# Altium integrated library Without Case Components.IntLib: 21 symbols
Pins are listed as number, name and electrical type; pins without a type are passive.

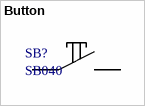
[diagram p0: symbol Button]

## Button
designator SB?, comment SB040
SB040 RED IP65 on-off ф20.2mm; Name: Включатель; Case: *; HelpURL: https://www.chipdip.ru/product0/8007160447; Model: SB040 RED; Value: SB040
pins: 1, 2


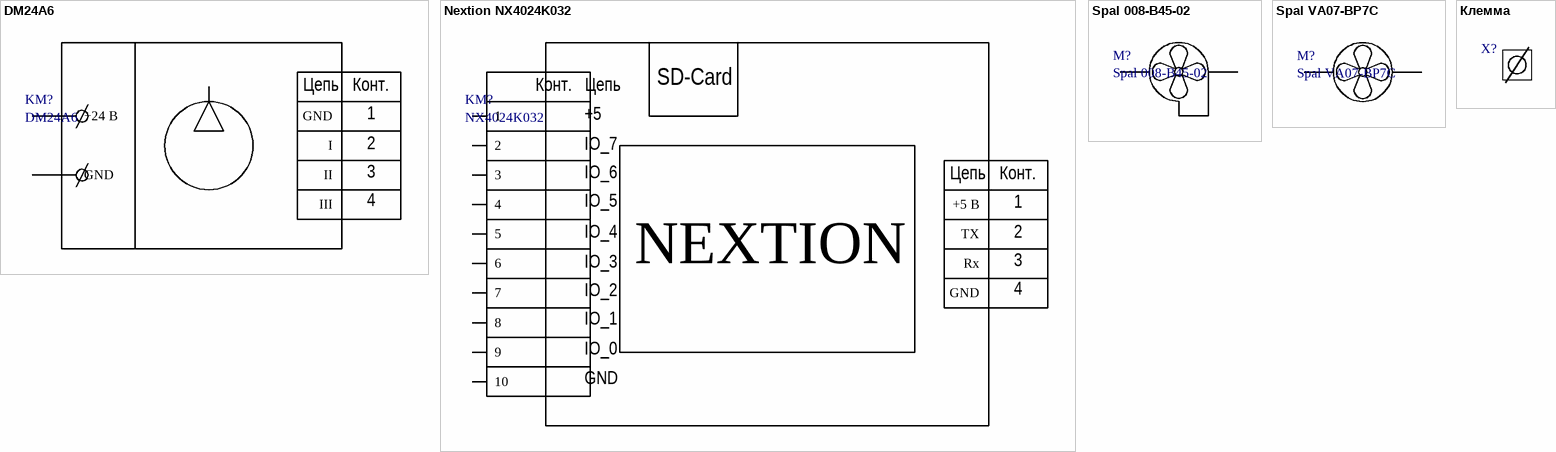
[diagram p1: symbols DM24A6 to Клемма]

## DM24A6
designator KM?
DM24A6 dc 24v air compressor, speed 1800-6000; Name: Спиральный компрессор; HelpURL: https://www.ecvv.com/product/4596610.html; Model: DM24A6; Value: DM24A6
pins: 1 +24 B, 2 GND, 3 GND, 4 I, 5 II, 6 III
text: Цепь; Конт.

## Nextion NX4024K032
designator KM?, comment NX4024K032
Nextion NX4024K032; Name: Сенсорный экран; HelpURL: https://nextion.tech/datasheets/nx4024k032/; Model: NX4024K032; Value: NX4024K032
pins: 1 +5 В, 1, 2 TX, 2, 3 Rx, 3, 4 GND, 4, 5, 6, 7, 8, 9, 10
text: Конт.; Цепь; SD-Card; +5; IO_7; IO_6; IO_5; IO_4; IO_3; NEXTION; IO_2; IO_1; IO_0

## Spal 008-B45-02
designator M?
Name: Вентилятор приточный; HelpURL: https://thermo-top.ru/shop/1086/desc/spal-008-b45-02; Model: Spal 008-B45-02; Value: Spal 008-B45-02
pins: 1 VDD, 2 Q

## Spal VA07-BP7C
designator M?
Name: Вентилятор приточный; HelpURL: https://autoclimat.com/autoclimat-574; Model: Spal VA07-BP7C; Value: Spal VA07-BP7C
pins: 1 VDD, 2 Q

## Клемма
designator X?
Name: Клемма
pins: 1 VDD, 2 Q


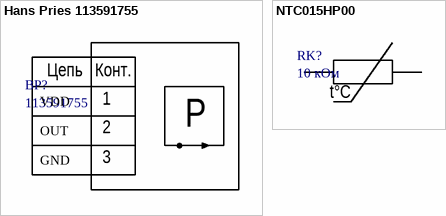
[diagram p2: symbols Hans Pries 113591755 to NTC015HP00]

## Hans Pries 113591755
designator BP?, comment 113591755
Hans Pries 113591755; Manufacture: Topran; Name: Датчик Давления; Case: SOT23-3; HelpURL: https://vw-parts.ru/dvigatel/sistema-kondicionirovaniya/datchik-davleniya-kondicionera-hans-pries-113591755; Model: Hans Pries 113591755; Value: 113591755
pins: 1 VDD, 2 OUT, 3 GND
text: Цепь; Конт.; P

## NTC015HP00
designator RK?, comment 10 кОм
NTC015HP00, Temp Control Cable, NTC Probe, 1.5m; Name: Терморезистор; HelpURL: https://www.chipdip.ru/product/ntc015hp00-temp-control-cable-ntc-p; Model: NTC015HP00; Value: 10 кОм
pins: 1 VDD, 2 Q
text: t°С


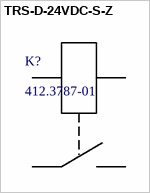
[diagram p3: symbol TRS-D-24VDC-S-Z]

## TRS-D-24VDC-S-Z
designator K?, comment 412.3787-01
Реле 412.3787-01 24В 100А (Энергомаш); HelpURL: https://www.12vi.ru/765/1083/1253/6721.html; Model: 412.3787-01 24В; Manufacture: Энергомаш; Value: 412.3787-01; Name: Реле
pins: 1, 2, 3, 4


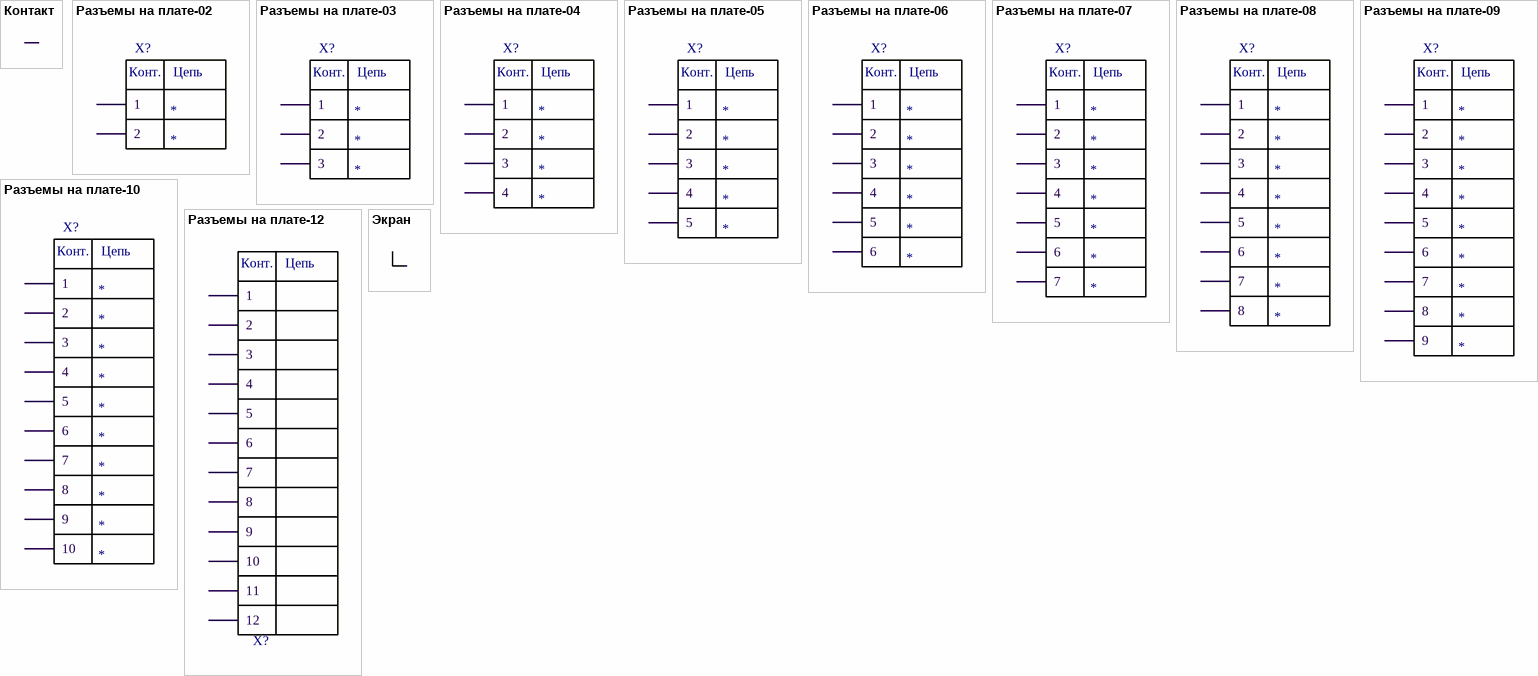
[diagram p4: symbols Контакт to Экран]

## Контакт
designator X?  (value not drawn)
Name: Контакт; Value: *
pins: 1 "Вход", 2 "Вход"

## Разъемы на плате-02
designator X?
Name: Разъем; Value: *; Конт.1: *; Конт.2: *
pins: 1 "Вход", 2 "Вход"
text: Конт.; Цепь

## Разъемы на плате-03
designator X?
Name: Разъем; Value: *; Конт.1: *; Конт.2: *; Конт.3: *
pins: 1 "Вход", 2 "Вход", 3 "Вход"
text: Конт.; Цепь

## Разъемы на плате-04
designator X?
Name: Разъем; Value: *; Конт.1: *; Конт.2: *; Конт.3: *; Конт.4: *
pins: 1 "Вход", 2 "Вход", 3 "Вход", 4 "Вход"
text: Конт.; Цепь

## Разъемы на плате-05
designator X?
Name: Разъем; Value: *; Конт.1: *; Конт.2: *; Конт.3: *; Конт.4: *; Конт.5: *
pins: 1 "Вход", 2 "Вход", 3 "Вход", 4 "Вход", 5 "Вход"
text: Конт.; Цепь

## Разъемы на плате-06
designator X?
Name: Разъем; Value: *; Конт.1: *; Конт.2: *; Конт.3: *; Конт.4: *; Конт.5: *; Конт.6: *
pins: 1 "Вход", 2 "Вход", 3 "Вход", 4 "Вход", 5 "Вход", 6 "Вход"
text: Конт.; Цепь

## Разъемы на плате-07
designator X?
Name: Разъем; Value: *; Конт.1: *; Конт.2: *; Конт.3: *; Конт.4: *; Конт.5: *; Конт.6: *; Конт.7: *
pins: 1 "Вход", 2 "Вход", 3 "Вход", 4 "Вход", 5 "Вход", 6 "Вход", 7 "Вход"
text: Конт.; Цепь

## Разъемы на плате-08
designator X?
Name: Разъем; Value: *; Конт.1: *; Конт.2: *; Конт.3: *; Конт.4: *; Конт.5: *; Конт.6: *; Конт.7: *; Конт.8: *
pins: 1 "Вход", 2 "Вход", 3 "Вход", 4 "Вход", 5 "Вход", 6 "Вход", 7 "Вход", 8 "Вход"
text: Конт.; Цепь

## Разъемы на плате-09
designator X?
Name: Разъем; Value: *; Конт.1: *; Конт.2: *; Конт.3: *; Конт.4: *; Конт.5: *; Конт.6: *; Конт.7: *; Конт.8: *; Конт.9: *
pins: 1 "Вход", 2 "Вход", 3 "Вход", 4 "Вход", 5 "Вход", 6 "Вход", 7 "Вход", 8 "Вход", 9 "Вход"
text: Конт.; Цепь

## Разъемы на плате-10
designator X?
Name: Разъем; Case: *; HelpURL: *; Manufacture: *; Model: *; Value: *; Конт.10: *; Конт.1: *; Конт.2: *; Конт.3: *; Конт.4: *; Конт.5: *; Конт.6: *; Конт.7: *; Конт.8: *; Конт.9: *
pins: 1 "Вход", 2 "Вход", 3 "Вход", 4 "Вход", 5 "Вход", 6 "Вход", 7 "Вход", 8 "Вход", 9 "Вход", 10 "Вход"
text: Конт.; Цепь

## Разъемы на плате-12
designator X?  (value not drawn)
Name: Разъем; Case: *; HelpURL: *; Manufacture: *; Model: *; Конт.11: *; Конт.10: *; Конт.1: *; Конт.2: *; Конт.3: *; Конт.4: *; Конт.5: *; Конт.6: *; Конт.7: *; Конт.8: *; Конт.9: *; Конт.12: *; Value: *
pins: 1 "Вход", 2 "Вход", 3 "Вход", 4 "Вход", 5 "Вход", 6 "Вход", 7 "Вход", 8 "Вход", 9 "Вход", 10 "Вход", 11 "Вход", 12 "Вход"
text: Конт.; Цепь

## Экран
designator X?  (value not drawn)
Name: Экран; Value: *
pins: 1 "Вход"